# EAGLE library part 74S38D (library EW_IC_74_Logic)
digital n-input nand buffer. Category: Gates Manufacturer: Generic
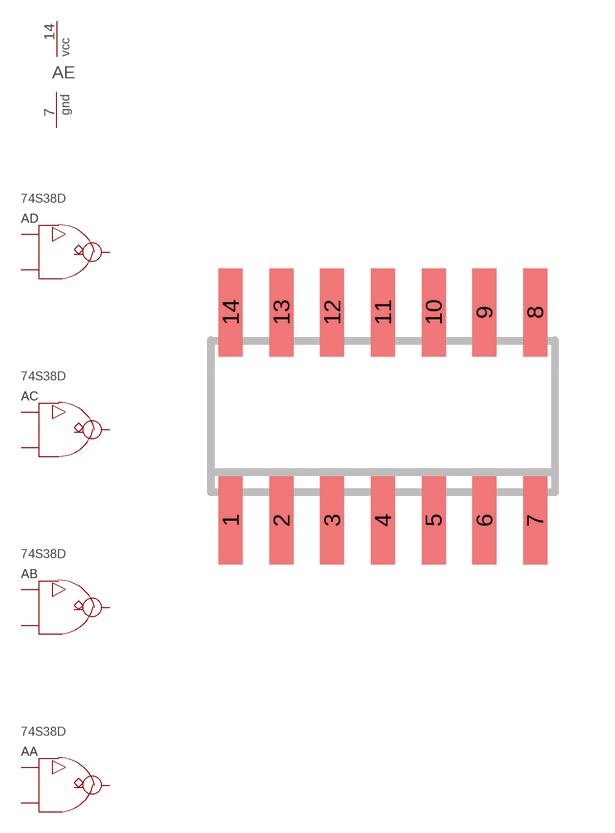
[diagram p63: symbol with the pads of SO14; footprint SO14]

Designator prefix A; gates A=NAND_2_BUFF_OC B=NAND_2_BUFF_OC C=NAND_2_BUFF_OC D=NAND_2_BUFF_OC E=PWRN

## 74S38D  [SO14]
1  A:A  pwr
2  A:B  pwr
3  A:Y  pwr
4  B:A  pwr
5  B:B  pwr
6  B:Y  pwr
7  E:GND  pwr
8  C:Y  pwr
9  C:A  pwr
10  C:B  pwr
11  D:Y  pwr
12  D:A  pwr
13  D:B  pwr
14  E:VCC  pwr

## Footprint SO14 (pad centres in mm)
SMALL OUTLINE INTEGRATED CIRCUIT body 3.9 mm/JEDEC MS-012AC
smd 0.6 x 2.2: 1 -3.81,-2.6; 2 -2.54,-2.6; 3 -1.27,-2.6; 4 0,-2.6; 5 1.27,-2.6; 6 2.54,-2.6; 7 3.81,-2.6; 8 3.81,2.6; 9 2.54,2.6; 10 1.27,2.6; 11 0,2.6; 12 -1.27,2.6; 13 -2.54,2.6; 14 -3.81,2.6